# Altium footprint library sliderpot.PcbLib: 1 footprints
Each footprint in its own frame and in the unit in brackets; x right, y up, seen from the top. Pads: shape width x height; smd on the part's side, far side on the other; paste and mask are expansions set on the pad; w line width, h text height; cw(c..) or ccw(c..) is an arc to the next point about the centre after c.
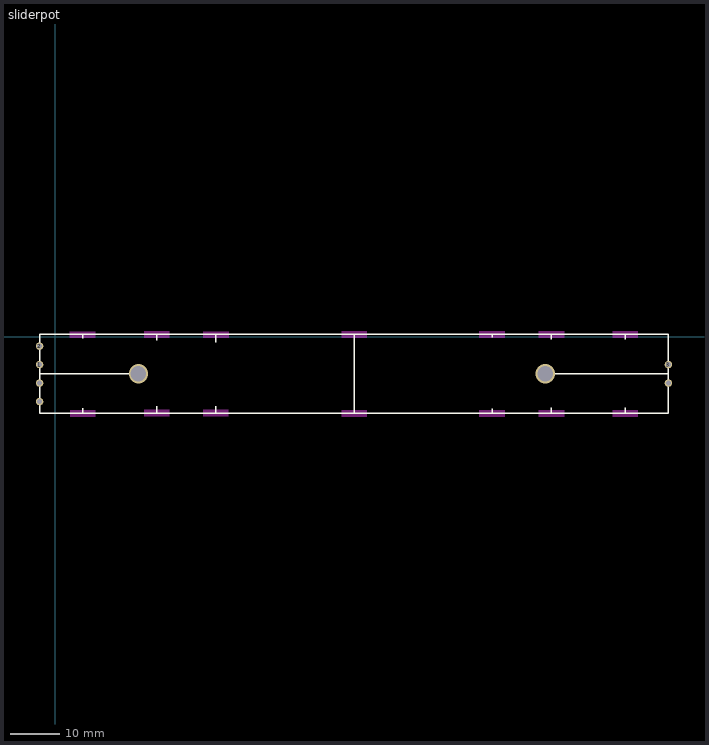
[diagram p0: the footprint, top view; thin cyan lines are the x and y axes]

## sliderpot [mil]
pads (6):
  round 60 hole 41.34: 1(-125,-221.09) 2(-125,-73.46) 3(4894.37,-221.09) (1)(-125,-368.73) (2)(-125,-516.37) (3)(4894.37,-368.73)
via 3910.04,-294.96 diameter 154.02 hole 124.02
via 664.37,-295.04 diameter 154.02 hole 124.02
Top Overlay:
  lines w10: -125,-610 -125,19.92 ; -125,-368.73 -125,-516.37 -125,-73.46 -125,-221.09 ; -125,-295.04 664.37,-295.04 ; 219.49,-570.51 219.49,-609.92 ; 219.49,-9.49 219.49,20 ; 810.04,-555.04 810.04,-609.92 ; 810.04,-24.96 810.04,20 ; 1282.48,-552.48 1282.48,-609.92 810.04,-609.92 ; 1282.48,-42.48 1282.48,20 810.04,20 ; 2384.84,-609.92 2384.84,20 ; 3486.89,-573.11 3486.89,-609.92 3959.33,-609.92 ; 3487.2,-2.8 3487.2,20 3959.65,20 ; 3910.04,-294.96 4892.32,-294.96 ; 3959.33,-564.33 3959.33,-609.92 ; 3959.65,-19.65 3959.65,20 ; 4549.88,-565.12 4549.88,-609.92 ; 4550.2,-19.8 4550.2,20 ; 4894.37,20 4894.37,-609.92 4549.88,-609.92 ; 4894.69,-609.92 -125,-609.92 219.49,-609.92 ; 219.49,-609.92 810.04,-609.92 ; 219.49,20 -125,20 4894.69,20 4550.2,20 ; 219.49,20 810.04,20 ; 3959.33,-609.92 4549.88,-609.92 ; 3959.65,20 4550.2,20
Keep-Out Layer:
  region: 115.28,45 115.28,-10.12 320,-10.12 320,45
  region: 708.48,46.52 708.48,-8.6 913.2,-8.6 913.2,46.52
  region: 708.48,-578.48 708.48,-633.6 913.2,-633.6 913.2,-578.48
  region: 1178.48,-578.48 1178.48,-633.6 1383.2,-633.6 1383.2,-578.48
  region: 118.48,-583.48 118.48,-638.6 323.2,-638.6 323.2,-583.48
  region: 2283.48,-583.48 2283.48,-638.6 2488.2,-638.6 2488.2,-583.48
  region: 2283.48,46.52 2283.48,-8.6 2488.2,-8.6 2488.2,46.52
  region: 3383.48,46.52 3383.48,-8.6 3588.2,-8.6 3588.2,46.52
  region: 3383.48,-583.48 3383.48,-638.6 3588.2,-638.6 3588.2,-583.48
  region: 4448.48,-583.48 4448.48,-638.6 4653.2,-638.6 4653.2,-583.48
  region: 4448.48,46.52 4448.48,-8.6 4653.2,-8.6 4653.2,46.52
  region: 3858.48,46.52 3858.48,-8.6 4063.2,-8.6 4063.2,46.52
  region: 3858.48,-583.48 3858.48,-638.6 4063.2,-638.6 4063.2,-583.48
  region: 1180.28,45.12 1180.28,-10 1385,-10 1385,45.12